# Altium footprint library SHOU HAN_CY54.PcbLib: 1 footprints
Each footprint in its own frame and in the unit in brackets; x right, y up, seen from the top. Pads: shape width x height; smd on the part's side, far side on the other; paste and mask are expansions set on the pad; w line width, h text height; cw(c..) or ccw(c..) is an arc to the next point about the centre after c.
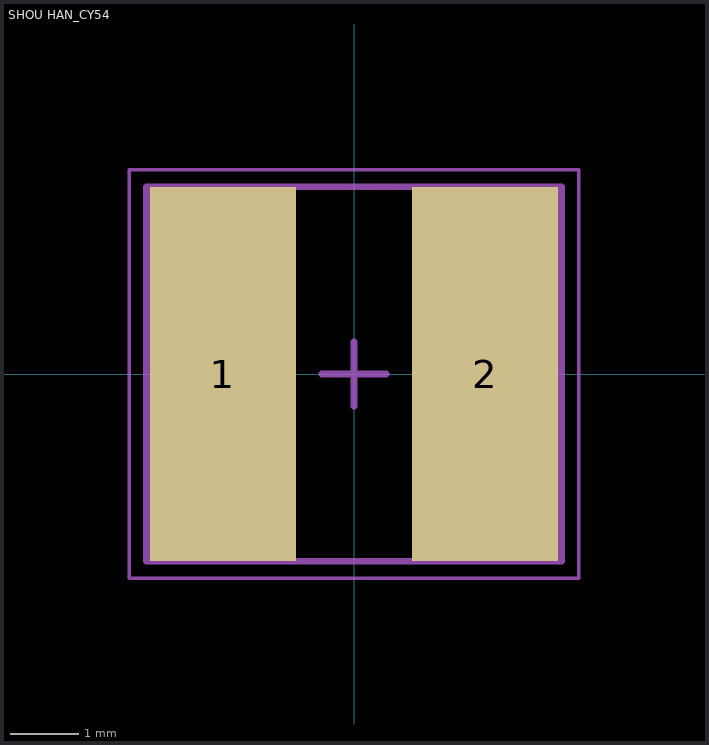
[diagram p0: the footprint, top view; thin cyan lines are the x and y axes]

## SHOU HAN_CY54 [mm]
height 4.85
pads (2):
  rect 2.15x5.5 smd: 1(-1.925,0) 2(1.925,0)
Top 3D Body:
  lines w0.1: -3.05,-2.75 3.05,-2.75 3.05,2.75 -3.05,2.75 -3.05,-2.75
Top Courtyard (Mech15):
  lines w0.05: -3.3,-3 -3.3,3 3.3,3 3.3,-3 -3.3,-3
  lines w0.1: -0.475,0 0.475,0 ; 0,-0.475 0,0.475
3D body: height 4.85, standoff 0, extent -3.05,-2.75 3.05,2.75